# Altium schematic symbol library 223-2142.SCHLIB: 1 symbol
Pins are listed as number, name and electrical type; pins without a type are passive.

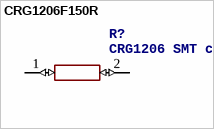
[diagram p0: symbol CRG1206F150R]

## CRG1206F150R
designator R?, comment CRG1206 SMT chip resistor,150R 0.25W TE Connectivity CRG1206 Series Thick Film Surface Mount Resistor 1206 Case 150 +/-1% 0.25W +/-100ppm/C   Source:  Datasheet
Manufacturer_Part_Number: CRG1206F150R; Manufacturer_Name: TE Connectivity; Mouser_Part_Number: 279-CRG1206F150R; Mouser_Price-Stock: https://www.mouser.com/Search/Refine.aspx?Keyword=279-CRG1206F150R; Arrow_Part_Number: CRG1206F150R; Arrow_Price-Stock: https://www.arrow.com/en/products/crg1206f150r/te-connectivity; Description: CRG1206 SMT chip resistor,150R 0.25W TE Connectivity CRG1206 Series Thick Film Surface Mount Resistor 1206 Case 150 +/-1% 0.25W +/-100ppm/C; Height: 0.65mm
footprint RESC3116X65N
pins: 1 (io), 2 (io)